# Altium footprint library Inductors-transformers.PcbLib: 106 footprints (part 6 of 7)
Each footprint in its own frame and in the unit in brackets; x right, y up, seen from the top. Pads: shape width x height; smd on the part's side, far side on the other; paste and mask are expansions set on the pad; w line width, h text height; cw(c..) or ccw(c..) is an arc to the next point about the centre after c.
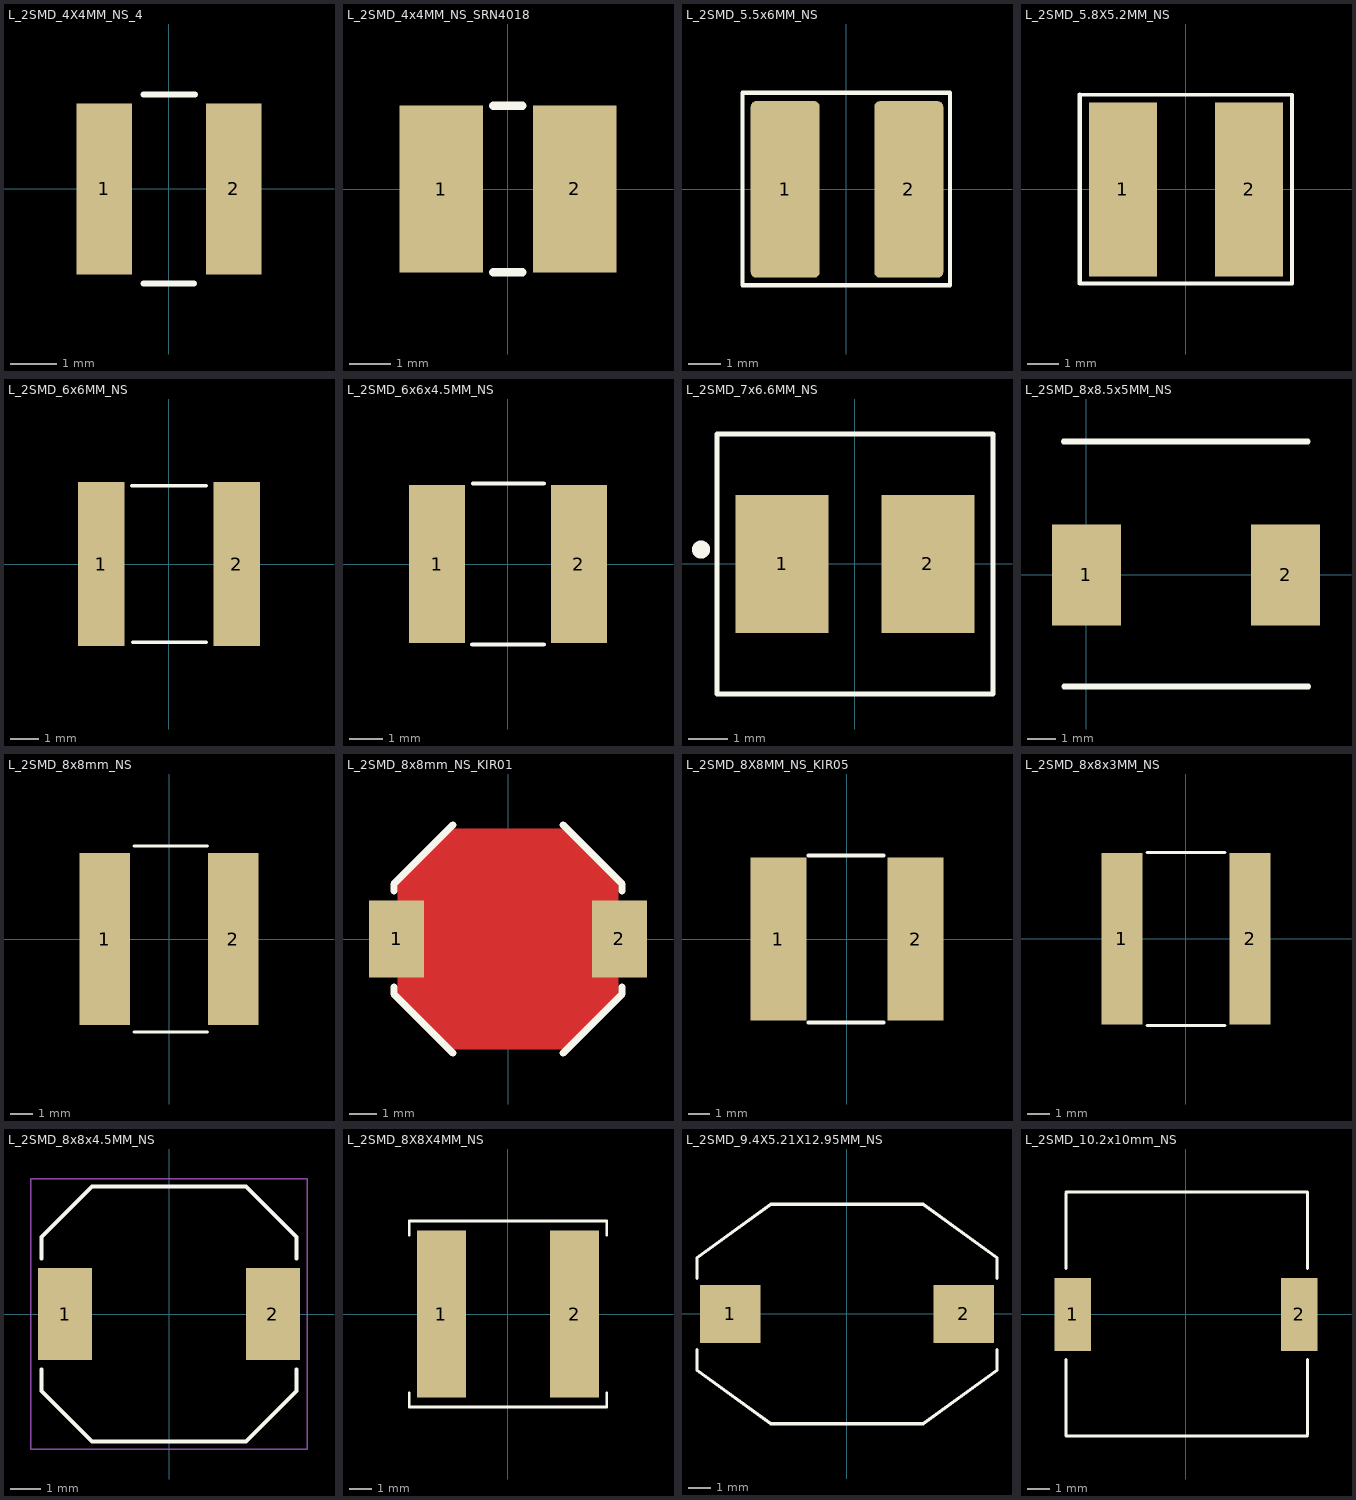
[diagram p5: the footprints below, top view; thin cyan lines are the x and y axes]

## L_2SMD_4X4MM_NS_4 [mm] "/20210810/J-E.Pachon"
pads (2):
  rect 1.2x3.7 smd: 1(-1.4,0) 2(1.4,0)
Top Overlay:
  lines w0.127: -0.552,-2.053 0.541,-2.053 ; -0.552,2.049 0.566,2.049
3D body: height 2.6, standoff 0, extent -2,-1.85 2,1.85

## L_2SMD_4x4MM_NS_SRN4018 [mm] "20200718 / C-D Viveros"
height 1.8
pads (2):
  rect 2x4 smd: 1(-1.6,0) 2(1.6,0)
Top Overlay:
  lines w0.2: -0.35,-2 0.35,-2 ; -0.35,2 0.35,2
3D body: height 1.8, standoff 0, extent -2.101,-2 1.901,2

## L_2SMD_5.5x6MM_NS [mm] "/20240513/J.Jaramillo"
pads (2):
  rrect15% 2.15x5.5 smd: 1(-1.9,0) 2(1.95,0)
Top Overlay:
  lines w0.127: -3.233,-2.986 3.236,-2.986 3.236,3.014 -3.233,3.014 -3.233,-2.986
3D body "ASPI-0504.STEP": height 4.5, standoff 0, extent -2.897,-2.6 2.897,2.6

## L_2SMD_5.8X5.2MM_NS [mm] "20220804/J-E.Pachon"
pads (2):
  rect 2.15x5.5 smd: 1(-2,0) 2(2,0)
Top Overlay:
  lines w0.127: -3.365,-2.983 -3.365,3.012 3.361,2.995 3.361,-2.983 -3.365,-2.983
3D body "74477410_Download_STP_WE-PD2-5848_rev1.stp": height 4.5, standoff 0, extent -2.892,-2.577 2.896,2.623

## L_2SMD_6x6MM_NS [mm] "20190327 /V-A.Patino"
pads (2):
  rect 1.6x5.7 smd: 1(-2.35,0) 2(2.35,0)
Top Overlay:
  lines w0.127: -1.283,2.718 1.282,2.718 ; -1.258,-2.718 1.282,-2.718
3D body "NRS5040.step": height 3.01, standoff 0.01, extent -2.55,-2.45 2.35,2.45

## L_2SMD_6x6x4.5MM_NS [mm] "20190909 /C-D Viveros"
pads (2):
  rect 1.7x4.8 smd: 1(-2.15,0) 2(2.15,0)
Top Overlay:
  lines w0.127: -1.083,-2.438 1.082,-2.438 ; -1.058,2.438 1.082,2.438
3D body "NRS5040.step": height 3.01, standoff 0.01, extent -2.55,-2.45 2.35,2.45

## L_2SMD_7x6.6MM_NS [mm] "110426 / J.Jaramillo"
pads (2):
  rect 2.35x3.5 smd: 1(-1.85,0) 2(1.85,0)
Top Overlay:
  circle w0.254: c-3.902,0.365 r0.103
  lines w0.127: -3.5,-3.3 3.5,-3.3 3.5,3.3 -3.5,3.3 -3.5,-3.3
3D body: height 2.8, standoff 0, extent -3.5,-3.3 3.5,3.3

## L_2SMD_8x8.5x5MM_NS [mm] "NS Inductor/20230724/L-A.Rodriguez"
pads (2):
  rect 2.4x3.5 smd: 1(0,0) 2(6.9,0)
Top Overlay:
  lines w0.2: -0.791,4.623 7.667,4.623 ; -0.769,-3.864 7.689,-3.864
3D body: height 5, standoff 0, extent -0.801,-3.6 7.701,4.4

## L_2SMD_8x8mm_NS [mm] "NonStandard / 20190226 / C-A.Serna.A"
pads (2):
  rect 2.2x7.5 smd: 1(-2.8,0) 2(2.8,0)
Top Overlay:
  lines w0.127: -1.524,-4.064 1.676,-4.064 ; -1.524,4.064 1.676,4.064
3D body "IND_TAIYO_NR8040.stp": height 4.19, standoff 0, extent -4.108,-4.105 4.096,4.105

## L_2SMD_8x8mm_NS_KIR01 [mm] "20191018/ V-A.Patino"
pads (2):
  rect 2x2.8 smd: 1(-4.05,0) 2(4.05,0)
Top Layer:
  pour cut-out: -4,-2 -4,2 -2,4 2,4 4,2 4,-2 2,-4 -2,-4
Top Overlay:
  lines w0.254: -4.15,-1.746 -4.15,-2 -2,-4.15 ; -4.15,1.746 -4.15,2 -2,4.15 ; 2,-4.15 4.15,-2 4.15,-1.746 ; 2,4.15 4.15,2 4.15,1.746
3D body: height 3, standoff 0.3, extent -4,-4 4,4

## L_2SMD_8X8MM_NS_KIR05 [mm] "NONSTD/20200715/N-A.Potosi"
pads (2):
  rect 2.6x7.6 smd: 1(-3.2,0) 2(3.2,0)
Top Overlay:
  lines w0.203: -1.8,-3.9 1.7,-3.9 ; -1.8,3.9 1.7,3.9
3D body: height 3, standoff 0, extent -4,-4 4,4

## L_2SMD_8x8x3MM_NS [mm] "/20220520/F-A.Ospina"
pads (2):
  rect 1.8x7.5 smd: 1(-2.8,0) 2(2.8,0)
Top Overlay:
  lines w0.127: -1.704,-3.796 1.701,-3.796 ; -1.697,3.773 1.709,3.773
3D body "L_XNH8080XK.STEP": height 3, standoff 0, extent -4.029,-4.023 3.971,3.977

## L_2SMD_8x8x4.5MM_NS [mm] "/20220512/V-A.Patino"
pads (2):
  rect 1.75x3 smd: 1(-3.375,0) 2(3.375,0)
Top Overlay:
  lines w0.127: -4.15,-1.8 -4.15,-2.5 -2.5,-4.15 2.5,-4.15 4.15,-2.5 4.15,-1.8 ; -4.15,1.8 -4.15,2.5 -2.5,4.15 2.5,4.15 4.15,2.5 4.15,1.8 ; -0.5,4.15 0.5,4.15 ; -0.5,-4.15 0.5,-4.15 -0.5,-4.15
Mechanical 15:
  lines w0.05: -4.5,-4.4 4.5,-4.4 4.5,4.4 -4.5,4.4 -4.5,-4.4
3D body "1217AS-H-4R7N=P3.STEP": height 4.51, standoff 0.01, extent -4,-4 4,4

## L_2SMD_8X8X4MM_NS [mm] "20220818 / E.Naranjo"
pads (2):
  rect 2.2x7.5 smd: 1(-3,0) 2(3,0)
Top Overlay:
  lines w0.127: -4.445,-3.556 -4.445,-4.191 4.445,-4.191 4.445,-3.556 ; -4.445,3.556 -4.445,4.191 4.445,4.191 4.445,3.556
3D body "IND_SWPA8040S_SNL.step": height 4.19, standoff 0, extent -4.153,-4.153 4.153,4.153

## L_2SMD_9.4X5.21X12.95MM_NS [mil] "20220107 / E.Naranjo"
pads (2):
  rect 105x100 smd: 1(-202.5,0) 2(202.5,0)
Top Overlay:
  lines w6: -260,-62.11 -260,-97.5 -132.5,-190 132.5,-190 260,-97.5 260,-62.11 ; -260,62.11 -260,97.5 -132.5,190 132.5,190 260,97.5 260,62.11
3D body "IND_SMT_DO3316P_12P95X9P4_COC.step": height 217.01, standoff 0, extent -267.01,-185 267.01,185

## L_2SMD_10.2x10mm_NS [mm] "NonStandard / 20190226 / C-A.Serna.A"
pads (2):
  rect 1.6x3.2 smd: 1(-4.95,0) 2(4.95,0)
Top Overlay:
  lines w0.127: -5.244,-1.974 -5.244,-5.303 5.314,-5.303 ; -5.244,2.01 -5.244,5.28 ; -5.244,5.338 5.314,5.338 5.314,2.01 ; 5.314,-5.245 5.314,-1.974
3D body: height 5, standoff 0.25, extent -5,-5.1 5,5.1